# EAGLE library part RMB841-2Z-5VDC (library componente_RFSwitch)
TME ref: RMB841-2Z-5VDC RELPOL RMB841-2022-35-1005
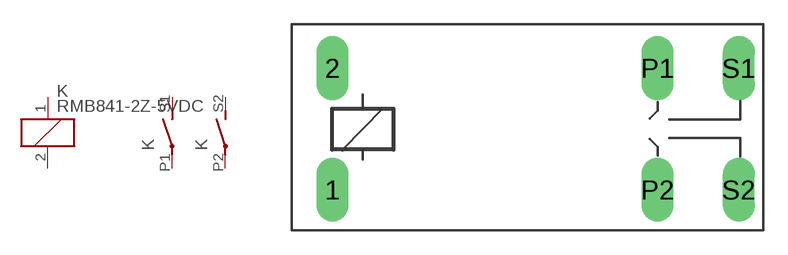
[diagram p1: symbol with the pads of RMB841-2Z-5VDC; footprint RMB841-2Z-5VDC]

Designator prefix K; gates G$1=K G$2=S G$3=S

## RMB841-2Z-5VDC  [RMB841-2Z-5VDC]
1  G$1:1  pas
2  G$1:2  pas
P1  G$2:P  pas
P2  G$3:P  pas
S1  G$2:S  pas
S2  G$3:S  pas

## Footprint RMB841-2Z-5VDC (pad centres in mm)
drill 1.321 long: 1 -12,-3.85; 2 -12,3.65; P1 8,3.65; P2 8,-3.85; S1 13,3.65; S2 13,-3.85